# EAGLE library part DB9_BREAKOUT (library CANcape)
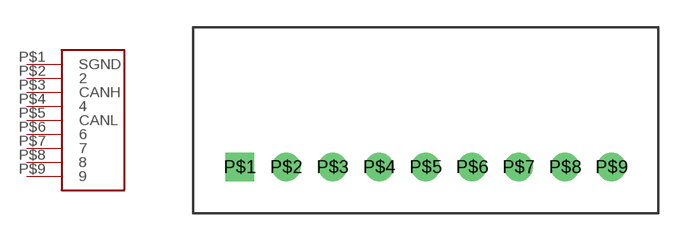
[diagram p2: symbol with the pads of DB9_BREAKOUT; footprint DB9_BREAKOUT]

Designator prefix -

## DB9_BREAKOUT  [DB9_BREAKOUT]
P$1  SGND
P$2  2
P$3  CANH
P$4  4
P$5  CANL
P$6  6
P$7  7
P$8  8
P$9  9

## Footprint DB9_BREAKOUT (pad centres in mm)
drill 1.041 square: P$1 0,0
drill 1.041: P$2 2.54,0; P$3 5.08,0; P$4 7.62,0; P$5 10.16,0; P$6 12.7,0; P$7 15.24,0; P$8 17.78,0; P$9 20.32,0